# EAGLE library part QHL600300S24 (library SAE_2019)
QHL600300S24 XP Power - Isolated Board Mount DC/DC Converter, ITE, 1 Output, 600 W, 24 V, 25 A
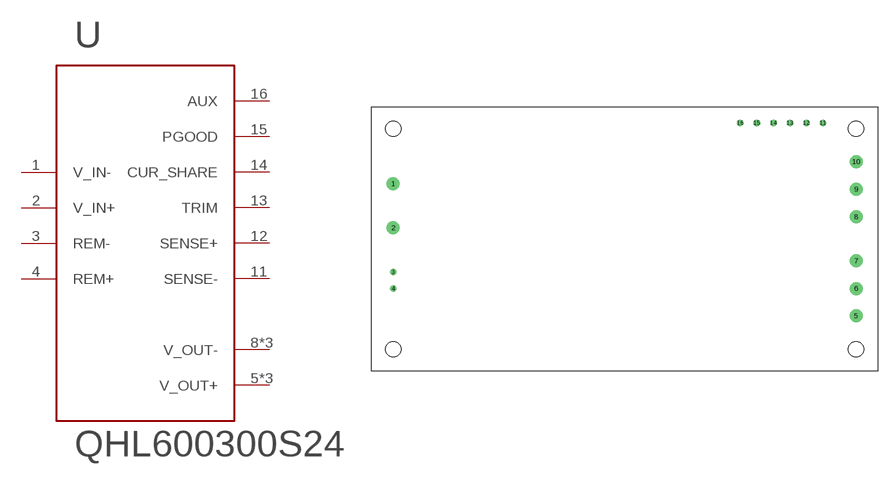
[diagram p5: symbol with the pads of QHL600300S24; footprint QHL600300S24]

Designator prefix -

## QHL600300S24  [QHL600300S24]
1  V_IN-
2  V_IN+
3  REM-
4  REM+
5  V_OUT+
6  V_OUT+
7  V_OUT+
8  V_OUT-
9  V_OUT-
10  V_OUT-
11  SENSE-
12  SENSE+
13  TRIM
14  CUR_SHARE
15  PGOOD
16  AUX

## Footprint QHL600300S24 (pad centres in mm)
QHL600300S24
drill 2: 1 5.05,43.2; 2 5.05,33.04; 5 111.75,12.75; 6 111.75,19.07; 7 111.75,25.42; 8 111.75,35.58; 9 111.75,41.93; 10 111.75,48.28
drill 1: 3 5.05,22.88; 4 5.05,19.07; 11 104.11,57.17; 12 100.3,57.17; 13 96.49,57.17; 14 92.68,57.17; 15 88.87,57.17; 16 85.06,57.17
hole 3.5 at 5.05,5.1
hole 3.5 at 5.05,55.9
hole 3.5 at 111.75,55.9
hole 3.5 at 111.75,5.05